# Altium footprint library HC49_US.PcbLib: 1 footprints
Each footprint in its own frame and in the unit in brackets; x right, y up, seen from the top. Pads: shape width x height; smd on the part's side, far side on the other; paste and mask are expansions set on the pad; w line width, h text height; cw(c..) or ccw(c..) is an arc to the next point about the centre after c.
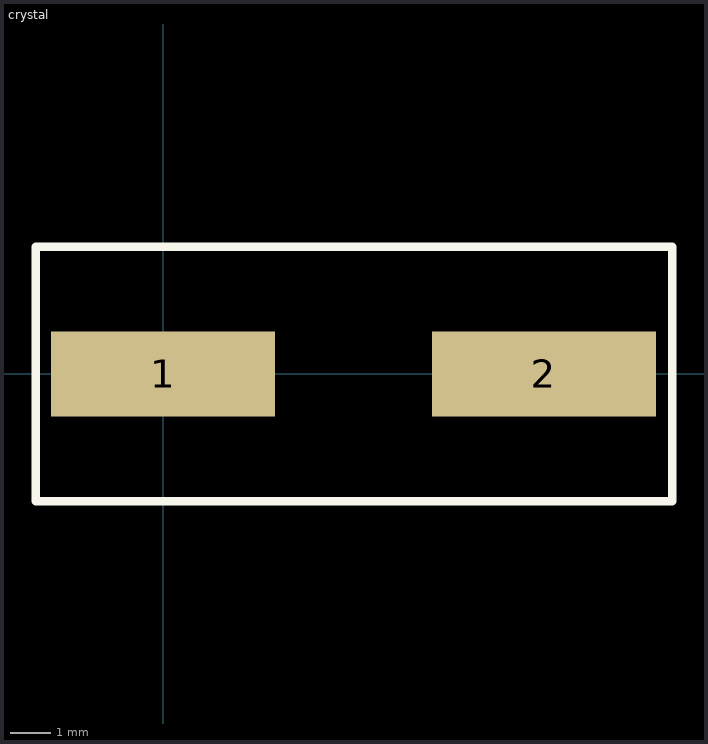
[diagram p0: the footprint, top view; thin cyan lines are the x and y axes]

## crystal [mil]
pads (2):
  rect 220x83 smd: 1(0,0) 2(374,0)
Top Overlay:
  lines w8: -125,-125 -125,125 500,125 500,-125 -125,-125
3D body: height 20, standoff 0, extent -37,-95 413,95